# Altium schematic symbol library IRF5210S.Schlib: 1 symbol
Pins are listed as number, name and electrical type; pins without a type are passive.

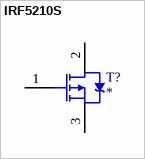
[diagram p0: symbol IRF5210S]

## IRF5210S
designator T?
P channel Power MosFET
footprint D2Pak
pins: 1 G, 2 D, 3 S